# Altium footprint library Connector_PinHeader_2.00mm.PcbLib: 278 footprints (part 7 of 18)
Each footprint in its own frame and in the unit in brackets; x right, y up, seen from the top. Pads: shape width x height; smd on the part's side, far side on the other; paste and mask are expansions set on the pad; w line width, h text height; cw(c..) or ccw(c..) is an arc to the next point about the centre after c.
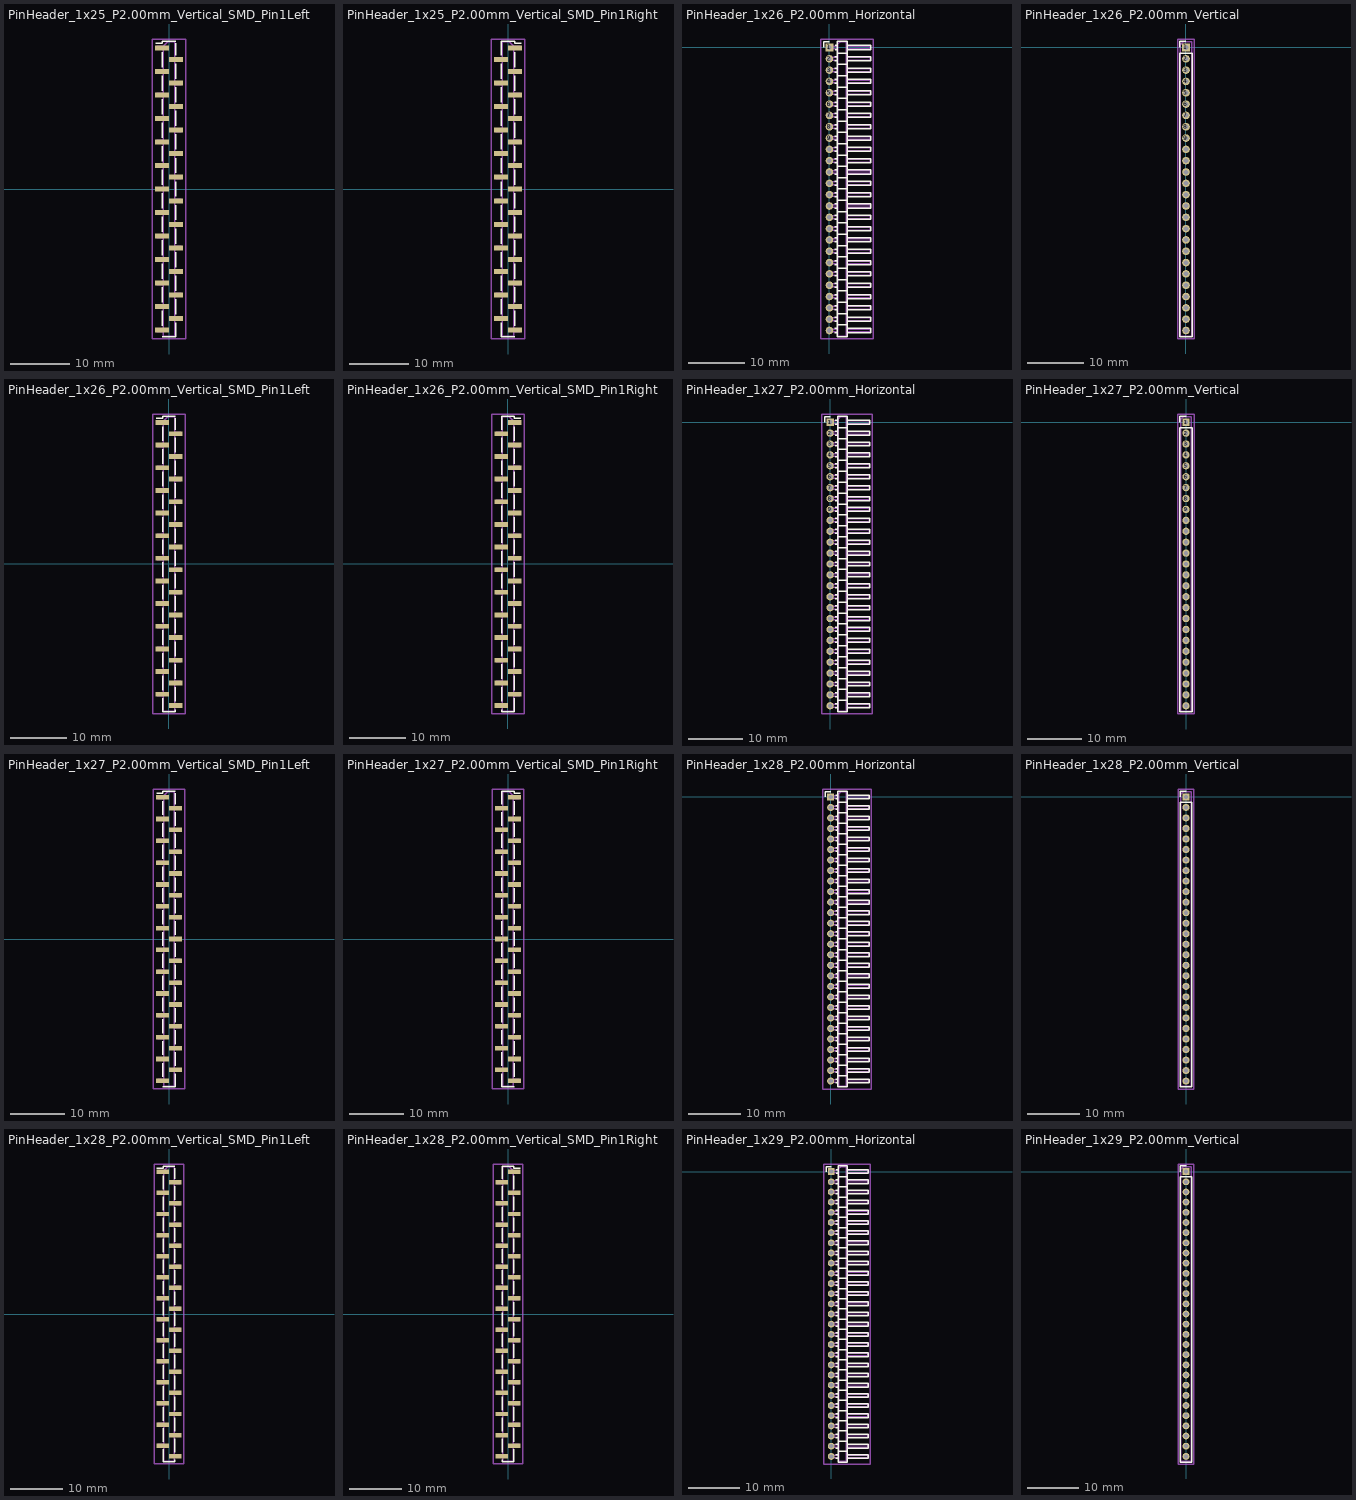
[diagram p6: the footprints below, top view; thin cyan lines are the x and y axes]

## PinHeader_1x25_P2.00mm_Vertical_SMD_Pin1Left [mm]
pads (25):
  rect 2.35x0.85 smd: 1(-1.175,24) 2(1.175,22) 3(-1.175,20) 4(1.175,18) 5(-1.175,16) 6(1.175,14) 7(-1.175,12) 8(1.175,10) 9(-1.175,8) 10(1.175,6) 11(-1.175,4) 12(1.175,2) 13(-1.175,0) 14(1.175,-2) 15(-1.175,-4) 16(1.175,-6) 17(-1.175,-8) 18(1.175,-10) 19(-1.175,-12) 20(1.175,-14) 21(-1.175,-16) 22(1.175,-18) 23(-1.175,-20) 24(1.175,-22) 25(-1.175,-24)
F.SilkS:
  lines w0.254: -2.29,24.735 -1.11,24.735 -1.11,25.11 1.11,25.11 ; -1.11,-25.11 1.11,-25.11 ; -1.11,-23.265 -1.11,-20.735 ; -1.11,-19.265 -1.11,-16.735 ; -1.11,-15.265 -1.11,-12.735 ; -1.11,-11.265 -1.11,-8.735 ; -1.11,-7.265 -1.11,-4.735 ; -1.11,-3.265 -1.11,-0.735 ; -1.11,0.735 -1.11,3.265 ; -1.11,4.735 -1.11,7.265 ; -1.11,8.735 -1.11,11.265 ; -1.11,12.735 -1.11,15.265 ; -1.11,16.735 -1.11,19.265 ; -1.11,20.735 -1.11,23.265 ; 1.11,-24.735 1.11,-25.11 ; 1.11,-22.735 1.11,-25.11 ; 1.11,-21.265 1.11,-18.735 ; 1.11,-17.265 1.11,-14.735 ; 1.11,-13.265 1.11,-10.735 ; 1.11,-9.265 1.11,-6.735 ; 1.11,-5.265 1.11,-2.735 ; 1.11,-1.265 1.11,1.265 ; 1.11,2.735 1.11,5.265 ; 1.11,6.735 1.11,9.265 ; 1.11,10.735 1.11,13.265 ; 1.11,14.735 1.11,17.265 ; 1.11,18.735 1.11,21.265 ; 1.11,22.735 1.11,24.735
Top Assembly:
  lines w0.254: -1,-24.25 -2.1,-24.25 -2.1,-23.75 -1,-23.75 ; -1,-20.25 -2.1,-20.25 -2.1,-19.75 -1,-19.75 ; -1,-16.25 -2.1,-16.25 -2.1,-15.75 -1,-15.75 ; -1,-12.25 -2.1,-12.25 -2.1,-11.75 -1,-11.75 ; -1,-8.25 -2.1,-8.25 -2.1,-7.75 -1,-7.75 ; -1,-4.25 -2.1,-4.25 -2.1,-3.75 -1,-3.75 ; -1,-0.25 -2.1,-0.25 -2.1,0.25 -1,0.25 ; -1,3.75 -2.1,3.75 -2.1,4.25 -1,4.25 ; -1,7.75 -2.1,7.75 -2.1,8.25 -1,8.25 ; -1,11.75 -2.1,11.75 -2.1,12.25 -1,12.25 ; -1,15.75 -2.1,15.75 -2.1,16.25 -1,16.25 ; -1,19.75 -2.1,19.75 -2.1,20.25 -1,20.25 ; -1,23.75 -2.1,23.75 -2.1,24.25 -1,24.25 ; 1,-22.25 2.1,-22.25 2.1,-21.75 1,-21.75 ; 1,-18.25 2.1,-18.25 2.1,-17.75 1,-17.75 ; 1,-14.25 2.1,-14.25 2.1,-13.75 1,-13.75 ; 1,-10.25 2.1,-10.25 2.1,-9.75 1,-9.75 ; 1,-6.25 2.1,-6.25 2.1,-5.75 1,-5.75 ; 1,-2.25 2.1,-2.25 2.1,-1.75 1,-1.75 ; 1,1.75 2.1,1.75 2.1,2.25 1,2.25 ; 1,5.75 2.1,5.75 2.1,6.25 1,6.25 ; 1,9.75 2.1,9.75 2.1,10.25 1,10.25 ; 1,13.75 2.1,13.75 2.1,14.25 1,14.25 ; 1,17.75 2.1,17.75 2.1,18.25 1,18.25 ; 1,21.75 2.1,21.75 2.1,22.25 1,22.25 ; -1,24.25 -1,-25 1,-25 1,25 -0.25,25 -1,24.25
  text "'.Designator'" at 0.84,-4.047 h1
Top Courtyard:
  lines w0.254: -2.85,-25.5 2.85,-25.5 2.85,25.5 -2.85,25.5 -2.85,-25.5
Top Designator:
  text ".Designator" at -7.618,-0.508 h1.52

## PinHeader_1x25_P2.00mm_Vertical_SMD_Pin1Right [mm]
pads (25):
  rect 2.35x0.85 smd: 1(1.175,24) 2(-1.175,22) 3(1.175,20) 4(-1.175,18) 5(1.175,16) 6(-1.175,14) 7(1.175,12) 8(-1.175,10) 9(1.175,8) 10(-1.175,6) 11(1.175,4) 12(-1.175,2) 13(1.175,0) 14(-1.175,-2) 15(1.175,-4) 16(-1.175,-6) 17(1.175,-8) 18(-1.175,-10) 19(1.175,-12) 20(-1.175,-14) 21(1.175,-16) 22(-1.175,-18) 23(1.175,-20) 24(-1.175,-22) 25(1.175,-24)
F.SilkS:
  lines w0.254: -1.11,-24.735 -1.11,-25.11 ; -1.11,-22.735 -1.11,-25.11 ; -1.11,-21.265 -1.11,-18.735 ; -1.11,-17.265 -1.11,-14.735 ; -1.11,-13.265 -1.11,-10.735 ; -1.11,-9.265 -1.11,-6.735 ; -1.11,-5.265 -1.11,-2.735 ; -1.11,-1.265 -1.11,1.265 ; -1.11,2.735 -1.11,5.265 ; -1.11,6.735 -1.11,9.265 ; -1.11,10.735 -1.11,13.265 ; -1.11,14.735 -1.11,17.265 ; -1.11,18.735 -1.11,21.265 ; -1.11,24.735 -1.11,22.735 -1.11,25.11 1.11,25.11 1.11,24.735 2.29,24.735 ; 1.11,-25.11 -1.11,-25.11 ; 1.11,-23.265 1.11,-20.735 ; 1.11,-19.265 1.11,-16.735 ; 1.11,-15.265 1.11,-12.735 ; 1.11,-11.265 1.11,-8.735 ; 1.11,-7.265 1.11,-4.735 ; 1.11,-3.265 1.11,-0.735 ; 1.11,0.735 1.11,3.265 ; 1.11,4.735 1.11,7.265 ; 1.11,8.735 1.11,11.265 ; 1.11,12.735 1.11,15.265 ; 1.11,16.735 1.11,19.265 ; 1.11,20.735 1.11,23.265
Top Assembly:
  lines w0.254: -1,-22.25 -2.1,-22.25 -2.1,-21.75 -1,-21.75 ; -1,-18.25 -2.1,-18.25 -2.1,-17.75 -1,-17.75 ; -1,-14.25 -2.1,-14.25 -2.1,-13.75 -1,-13.75 ; -1,-10.25 -2.1,-10.25 -2.1,-9.75 -1,-9.75 ; -1,-6.25 -2.1,-6.25 -2.1,-5.75 -1,-5.75 ; -1,-2.25 -2.1,-2.25 -2.1,-1.75 -1,-1.75 ; -1,1.75 -2.1,1.75 -2.1,2.25 -1,2.25 ; -1,5.75 -2.1,5.75 -2.1,6.25 -1,6.25 ; -1,9.75 -2.1,9.75 -2.1,10.25 -1,10.25 ; -1,13.75 -2.1,13.75 -2.1,14.25 -1,14.25 ; -1,17.75 -2.1,17.75 -2.1,18.25 -1,18.25 ; -1,21.75 -2.1,21.75 -2.1,22.25 -1,22.25 ; 1,-24.25 2.1,-24.25 2.1,-23.75 1,-23.75 ; 1,-20.25 2.1,-20.25 2.1,-19.75 1,-19.75 ; 1,-16.25 2.1,-16.25 2.1,-15.75 1,-15.75 ; 1,-12.25 2.1,-12.25 2.1,-11.75 1,-11.75 ; 1,-8.25 2.1,-8.25 2.1,-7.75 1,-7.75 ; 1,-4.25 2.1,-4.25 2.1,-3.75 1,-3.75 ; 1,-0.25 2.1,-0.25 2.1,0.25 1,0.25 ; 1,3.75 2.1,3.75 2.1,4.25 1,4.25 ; 1,7.75 2.1,7.75 2.1,8.25 1,8.25 ; 1,11.75 2.1,11.75 2.1,12.25 1,12.25 ; 1,15.75 2.1,15.75 2.1,16.25 1,16.25 ; 1,19.75 2.1,19.75 2.1,20.25 1,20.25 ; 1,23.75 2.1,23.75 2.1,24.25 1,24.25 ; 1,24.25 1,-25 -1,-25 -1,25 0.25,25 1,24.25
  text "'.Designator'" at 0.84,-4.047 h1
Top Courtyard:
  lines w0.254: -2.85,-25.5 2.85,-25.5 2.85,25.5 -2.85,25.5 -2.85,-25.5
Top Designator:
  text ".Designator" at -7.618,-0.508 h1.52

## PinHeader_1x26_P2.00mm_Horizontal [mm]
pads (26):
  rect 1.35x1.35 hole 0.8: 1(0,0)
  round 1.35 hole 0.8: 2(0,-2) 3(0,-4) 4(0,-6) 5(0,-8) 6(0,-10) 7(0,-12) 8(0,-14) 9(0,-16) 10(0,-18) 11(0,-20) 12(0,-22) 13(0,-24) 14(0,-26) 15(0,-28) 16(0,-30) 17(0,-32) 18(0,-34) 19(0,-36) 20(0,-38) 21(0,-40) 22(0,-42) 23(0,-44) 24(0,-46) 25(0,-48) 26(0,-50)
F.SilkS:
  drawing of 162 lines, arcs and shapes, not listed
Top Assembly:
  drawing of 161 lines, arcs and shapes, not listed
  text "'.Designator'" at 3.006,-28.642 h0.9
Top Courtyard:
  lines w0.254: -1.5,-51.5 7.7,-51.5 7.7,1.5 -1.5,1.5 -1.5,-51.5
Top Designator:
  text ".Designator" at -4.518,-25.508 h1.52

## PinHeader_1x26_P2.00mm_Vertical [mm]
pads (26):
  rect 1.35x1.35 hole 0.8: 1(0,0)
  round 1.35 hole 0.8: 2(0,-2) 3(0,-4) 4(0,-6) 5(0,-8) 6(0,-10) 7(0,-12) 8(0,-14) 9(0,-16) 10(0,-18) 11(0,-20) 12(0,-22) 13(0,-24) 14(0,-26) 15(0,-28) 16(0,-30) 17(0,-32) 18(0,-34) 19(0,-36) 20(0,-38) 21(0,-40) 22(0,-42) 23(0,-44) 24(0,-46) 25(0,-48) 26(0,-50)
F.SilkS:
  lines w0.254: -1.11,0 -1.11,1.11 0,1.11 ; -1.11,-51.11 1.11,-51.11 1.11,-1 -1.11,-1 -1.11,-51.11
Top Assembly:
  lines w0.254: -1,-51 1,-51 1,1 -0.5,1 -1,0.5 -1,-51
  text "'.Designator'" at 0.84,-29.047 h1
Top Courtyard:
  lines w0.254: -1.5,-51.5 1.5,-51.5 1.5,1.5 -1.5,1.5 -1.5,-51.5
Top Designator:
  text ".Designator" at -7.618,-25.508 h1.52

## PinHeader_1x26_P2.00mm_Vertical_SMD_Pin1Left [mm]
pads (26):
  rect 2.35x0.85 smd: 1(-1.175,25) 2(1.175,23) 3(-1.175,21) 4(1.175,19) 5(-1.175,17) 6(1.175,15) 7(-1.175,13) 8(1.175,11) 9(-1.175,9) 10(1.175,7) 11(-1.175,5) 12(1.175,3) 13(-1.175,1) 14(1.175,-1) 15(-1.175,-3) 16(1.175,-5) 17(-1.175,-7) 18(1.175,-9) 19(-1.175,-11) 20(1.175,-13) 21(-1.175,-15) 22(1.175,-17) 23(-1.175,-19) 24(1.175,-21) 25(-1.175,-23) 26(1.175,-25)
F.SilkS:
  lines w0.254: -2.29,25.735 -1.11,25.735 -1.11,26.11 1.11,26.11 ; -1.11,-23.735 -1.11,-26.11 1.11,-26.11 1.11,-25.735 ; -1.11,-22.265 -1.11,-19.735 ; -1.11,-18.265 -1.11,-15.735 ; -1.11,-14.265 -1.11,-11.735 ; -1.11,-10.265 -1.11,-7.735 ; -1.11,-6.265 -1.11,-3.735 ; -1.11,-2.265 -1.11,0.265 ; -1.11,1.735 -1.11,4.265 ; -1.11,5.735 -1.11,8.265 ; -1.11,9.735 -1.11,12.265 ; -1.11,13.735 -1.11,16.265 ; -1.11,17.735 -1.11,20.265 ; -1.11,21.735 -1.11,24.265 ; 1.11,-24.265 1.11,-21.735 ; 1.11,-20.265 1.11,-17.735 ; 1.11,-16.265 1.11,-13.735 ; 1.11,-12.265 1.11,-9.735 ; 1.11,-8.265 1.11,-5.735 ; 1.11,-4.265 1.11,-1.735 ; 1.11,-0.265 1.11,2.265 ; 1.11,3.735 1.11,6.265 ; 1.11,7.735 1.11,10.265 ; 1.11,11.735 1.11,14.265 ; 1.11,15.735 1.11,18.265 ; 1.11,19.735 1.11,22.265 ; 1.11,23.735 1.11,25.735
Top Assembly:
  lines w0.254: -1,-23.25 -2.1,-23.25 -2.1,-22.75 -1,-22.75 ; -1,-19.25 -2.1,-19.25 -2.1,-18.75 -1,-18.75 ; -1,-15.25 -2.1,-15.25 -2.1,-14.75 -1,-14.75 ; -1,-11.25 -2.1,-11.25 -2.1,-10.75 -1,-10.75 ; -1,-7.25 -2.1,-7.25 -2.1,-6.75 -1,-6.75 ; -1,-3.25 -2.1,-3.25 -2.1,-2.75 -1,-2.75 ; -1,0.75 -2.1,0.75 -2.1,1.25 -1,1.25 ; -1,4.75 -2.1,4.75 -2.1,5.25 -1,5.25 ; -1,8.75 -2.1,8.75 -2.1,9.25 -1,9.25 ; -1,12.75 -2.1,12.75 -2.1,13.25 -1,13.25 ; -1,16.75 -2.1,16.75 -2.1,17.25 -1,17.25 ; -1,20.75 -2.1,20.75 -2.1,21.25 -1,21.25 ; -1,24.75 -2.1,24.75 -2.1,25.25 -1,25.25 ; 1,-25.25 2.1,-25.25 2.1,-24.75 1,-24.75 ; 1,-21.25 2.1,-21.25 2.1,-20.75 1,-20.75 ; 1,-17.25 2.1,-17.25 2.1,-16.75 1,-16.75 ; 1,-13.25 2.1,-13.25 2.1,-12.75 1,-12.75 ; 1,-9.25 2.1,-9.25 2.1,-8.75 1,-8.75 ; 1,-5.25 2.1,-5.25 2.1,-4.75 1,-4.75 ; 1,-1.25 2.1,-1.25 2.1,-0.75 1,-0.75 ; 1,2.75 2.1,2.75 2.1,3.25 1,3.25 ; 1,6.75 2.1,6.75 2.1,7.25 1,7.25 ; 1,10.75 2.1,10.75 2.1,11.25 1,11.25 ; 1,14.75 2.1,14.75 2.1,15.25 1,15.25 ; 1,18.75 2.1,18.75 2.1,19.25 1,19.25 ; 1,22.75 2.1,22.75 2.1,23.25 1,23.25 ; -1,25.25 -1,-26 1,-26 1,26 -0.25,26 -1,25.25
  text "'.Designator'" at 0.84,-4.047 h1
Top Courtyard:
  lines w0.254: -2.85,-26.5 2.85,-26.5 2.85,26.5 -2.85,26.5 -2.85,-26.5
Top Designator:
  text ".Designator" at -7.618,-0.508 h1.52

## PinHeader_1x26_P2.00mm_Vertical_SMD_Pin1Right [mm]
pads (26):
  rect 2.35x0.85 smd: 1(1.175,25) 2(-1.175,23) 3(1.175,21) 4(-1.175,19) 5(1.175,17) 6(-1.175,15) 7(1.175,13) 8(-1.175,11) 9(1.175,9) 10(-1.175,7) 11(1.175,5) 12(-1.175,3) 13(1.175,1) 14(-1.175,-1) 15(1.175,-3) 16(-1.175,-5) 17(1.175,-7) 18(-1.175,-9) 19(1.175,-11) 20(-1.175,-13) 21(1.175,-15) 22(-1.175,-17) 23(1.175,-19) 24(-1.175,-21) 25(1.175,-23) 26(-1.175,-25)
F.SilkS:
  lines w0.254: -1.11,-25.735 -1.11,-26.11 1.11,-26.11 1.11,-23.735 ; -1.11,-24.265 -1.11,-21.735 ; -1.11,-20.265 -1.11,-17.735 ; -1.11,-16.265 -1.11,-13.735 ; -1.11,-12.265 -1.11,-9.735 ; -1.11,-8.265 -1.11,-5.735 ; -1.11,-4.265 -1.11,-1.735 ; -1.11,-0.265 -1.11,2.265 ; -1.11,3.735 -1.11,6.265 ; -1.11,7.735 -1.11,10.265 ; -1.11,11.735 -1.11,14.265 ; -1.11,15.735 -1.11,18.265 ; -1.11,19.735 -1.11,22.265 ; -1.11,25.735 -1.11,23.735 -1.11,26.11 1.11,26.11 1.11,25.735 2.29,25.735 ; 1.11,-22.265 1.11,-19.735 ; 1.11,-18.265 1.11,-15.735 ; 1.11,-14.265 1.11,-11.735 ; 1.11,-10.265 1.11,-7.735 ; 1.11,-6.265 1.11,-3.735 ; 1.11,-2.265 1.11,0.265 ; 1.11,1.735 1.11,4.265 ; 1.11,5.735 1.11,8.265 ; 1.11,9.735 1.11,12.265 ; 1.11,13.735 1.11,16.265 ; 1.11,17.735 1.11,20.265 ; 1.11,21.735 1.11,24.265
Top Assembly:
  lines w0.254: -1,-25.25 -2.1,-25.25 -2.1,-24.75 -1,-24.75 ; -1,-21.25 -2.1,-21.25 -2.1,-20.75 -1,-20.75 ; -1,-17.25 -2.1,-17.25 -2.1,-16.75 -1,-16.75 ; -1,-13.25 -2.1,-13.25 -2.1,-12.75 -1,-12.75 ; -1,-9.25 -2.1,-9.25 -2.1,-8.75 -1,-8.75 ; -1,-5.25 -2.1,-5.25 -2.1,-4.75 -1,-4.75 ; -1,-1.25 -2.1,-1.25 -2.1,-0.75 -1,-0.75 ; -1,2.75 -2.1,2.75 -2.1,3.25 -1,3.25 ; -1,6.75 -2.1,6.75 -2.1,7.25 -1,7.25 ; -1,10.75 -2.1,10.75 -2.1,11.25 -1,11.25 ; -1,14.75 -2.1,14.75 -2.1,15.25 -1,15.25 ; -1,18.75 -2.1,18.75 -2.1,19.25 -1,19.25 ; -1,22.75 -2.1,22.75 -2.1,23.25 -1,23.25 ; 1,-23.25 2.1,-23.25 2.1,-22.75 1,-22.75 ; 1,-19.25 2.1,-19.25 2.1,-18.75 1,-18.75 ; 1,-15.25 2.1,-15.25 2.1,-14.75 1,-14.75 ; 1,-11.25 2.1,-11.25 2.1,-10.75 1,-10.75 ; 1,-7.25 2.1,-7.25 2.1,-6.75 1,-6.75 ; 1,-3.25 2.1,-3.25 2.1,-2.75 1,-2.75 ; 1,0.75 2.1,0.75 2.1,1.25 1,1.25 ; 1,4.75 2.1,4.75 2.1,5.25 1,5.25 ; 1,8.75 2.1,8.75 2.1,9.25 1,9.25 ; 1,12.75 2.1,12.75 2.1,13.25 1,13.25 ; 1,16.75 2.1,16.75 2.1,17.25 1,17.25 ; 1,20.75 2.1,20.75 2.1,21.25 1,21.25 ; 1,24.75 2.1,24.75 2.1,25.25 1,25.25 ; 1,25.25 1,-26 -1,-26 -1,26 0.25,26 1,25.25
  text "'.Designator'" at 0.84,-4.047 h1
Top Courtyard:
  lines w0.254: -2.85,-26.5 2.85,-26.5 2.85,26.5 -2.85,26.5 -2.85,-26.5
Top Designator:
  text ".Designator" at -7.618,-0.508 h1.52

## PinHeader_1x27_P2.00mm_Horizontal [mm]
pads (27):
  rect 1.35x1.35 hole 0.8: 1(0,0)
  round 1.35 hole 0.8: 2(0,-2) 3(0,-4) 4(0,-6) 5(0,-8) 6(0,-10) 7(0,-12) 8(0,-14) 9(0,-16) 10(0,-18) 11(0,-20) 12(0,-22) 13(0,-24) 14(0,-26) 15(0,-28) 16(0,-30) 17(0,-32) 18(0,-34) 19(0,-36) 20(0,-38) 21(0,-40) 22(0,-42) 23(0,-44) 24(0,-46) 25(0,-48) 26(0,-50) 27(0,-52)
F.SilkS:
  drawing of 168 lines, arcs and shapes, not listed
Top Assembly:
  drawing of 167 lines, arcs and shapes, not listed
  text "'.Designator'" at 3.006,-29.642 h0.9
Top Courtyard:
  lines w0.254: -1.5,-53.5 7.7,-53.5 7.7,1.5 -1.5,1.5 -1.5,-53.5
Top Designator:
  text ".Designator" at -4.518,-26.508 h1.52

## PinHeader_1x27_P2.00mm_Vertical [mm]
pads (27):
  rect 1.35x1.35 hole 0.8: 1(0,0)
  round 1.35 hole 0.8: 2(0,-2) 3(0,-4) 4(0,-6) 5(0,-8) 6(0,-10) 7(0,-12) 8(0,-14) 9(0,-16) 10(0,-18) 11(0,-20) 12(0,-22) 13(0,-24) 14(0,-26) 15(0,-28) 16(0,-30) 17(0,-32) 18(0,-34) 19(0,-36) 20(0,-38) 21(0,-40) 22(0,-42) 23(0,-44) 24(0,-46) 25(0,-48) 26(0,-50) 27(0,-52)
F.SilkS:
  lines w0.254: -1.11,0 -1.11,1.11 0,1.11 ; -1.11,-53.11 1.11,-53.11 1.11,-1 -1.11,-1 -1.11,-53.11
Top Assembly:
  lines w0.254: -1,-53 1,-53 1,1 -0.5,1 -1,0.5 -1,-53
  text "'.Designator'" at 0.84,-30.047 h1
Top Courtyard:
  lines w0.254: -1.5,-53.5 1.5,-53.5 1.5,1.5 -1.5,1.5 -1.5,-53.5
Top Designator:
  text ".Designator" at -7.618,-26.508 h1.52

## PinHeader_1x27_P2.00mm_Vertical_SMD_Pin1Left [mm]
pads (27):
  rect 2.35x0.85 smd: 1(-1.175,26) 2(1.175,24) 3(-1.175,22) 4(1.175,20) 5(-1.175,18) 6(1.175,16) 7(-1.175,14) 8(1.175,12) 9(-1.175,10) 10(1.175,8) 11(-1.175,6) 12(1.175,4) 13(-1.175,2) 14(1.175,0) 15(-1.175,-2) 16(1.175,-4) 17(-1.175,-6) 18(1.175,-8) 19(-1.175,-10) 20(1.175,-12) 21(-1.175,-14) 22(1.175,-16) 23(-1.175,-18) 24(1.175,-20) 25(-1.175,-22) 26(1.175,-24) 27(-1.175,-26)
F.SilkS:
  lines w0.254: -2.29,26.735 -1.11,26.735 -1.11,27.11 1.11,27.11 ; -1.11,-27.11 1.11,-27.11 ; -1.11,-25.265 -1.11,-22.735 ; -1.11,-21.265 -1.11,-18.735 ; -1.11,-17.265 -1.11,-14.735 ; -1.11,-13.265 -1.11,-10.735 ; -1.11,-9.265 -1.11,-6.735 ; -1.11,-5.265 -1.11,-2.735 ; -1.11,-1.265 -1.11,1.265 ; -1.11,2.735 -1.11,5.265 ; -1.11,6.735 -1.11,9.265 ; -1.11,10.735 -1.11,13.265 ; -1.11,14.735 -1.11,17.265 ; -1.11,18.735 -1.11,21.265 ; -1.11,22.735 -1.11,25.265 ; 1.11,-26.735 1.11,-27.11 ; 1.11,-24.735 1.11,-27.11 ; 1.11,-23.265 1.11,-20.735 ; 1.11,-19.265 1.11,-16.735 ; 1.11,-15.265 1.11,-12.735 ; 1.11,-11.265 1.11,-8.735 ; 1.11,-7.265 1.11,-4.735 ; 1.11,-3.265 1.11,-0.735 ; 1.11,0.735 1.11,3.265 ; 1.11,4.735 1.11,7.265 ; 1.11,8.735 1.11,11.265 ; 1.11,12.735 1.11,15.265 ; 1.11,16.735 1.11,19.265 ; 1.11,20.735 1.11,23.265 ; 1.11,24.735 1.11,26.735
Top Assembly:
  lines w0.254: -1,-26.25 -2.1,-26.25 -2.1,-25.75 -1,-25.75 ; -1,-22.25 -2.1,-22.25 -2.1,-21.75 -1,-21.75 ; -1,-18.25 -2.1,-18.25 -2.1,-17.75 -1,-17.75 ; -1,-14.25 -2.1,-14.25 -2.1,-13.75 -1,-13.75 ; -1,-10.25 -2.1,-10.25 -2.1,-9.75 -1,-9.75 ; -1,-6.25 -2.1,-6.25 -2.1,-5.75 -1,-5.75 ; -1,-2.25 -2.1,-2.25 -2.1,-1.75 -1,-1.75 ; -1,1.75 -2.1,1.75 -2.1,2.25 -1,2.25 ; -1,5.75 -2.1,5.75 -2.1,6.25 -1,6.25 ; -1,9.75 -2.1,9.75 -2.1,10.25 -1,10.25 ; -1,13.75 -2.1,13.75 -2.1,14.25 -1,14.25 ; -1,17.75 -2.1,17.75 -2.1,18.25 -1,18.25 ; -1,21.75 -2.1,21.75 -2.1,22.25 -1,22.25 ; -1,25.75 -2.1,25.75 -2.1,26.25 -1,26.25 ; 1,-24.25 2.1,-24.25 2.1,-23.75 1,-23.75 ; 1,-20.25 2.1,-20.25 2.1,-19.75 1,-19.75 ; 1,-16.25 2.1,-16.25 2.1,-15.75 1,-15.75 ; 1,-12.25 2.1,-12.25 2.1,-11.75 1,-11.75 ; 1,-8.25 2.1,-8.25 2.1,-7.75 1,-7.75 ; 1,-4.25 2.1,-4.25 2.1,-3.75 1,-3.75 ; 1,-0.25 2.1,-0.25 2.1,0.25 1,0.25 ; 1,3.75 2.1,3.75 2.1,4.25 1,4.25 ; 1,7.75 2.1,7.75 2.1,8.25 1,8.25 ; 1,11.75 2.1,11.75 2.1,12.25 1,12.25 ; 1,15.75 2.1,15.75 2.1,16.25 1,16.25 ; 1,19.75 2.1,19.75 2.1,20.25 1,20.25 ; 1,23.75 2.1,23.75 2.1,24.25 1,24.25 ; -1,26.25 -1,-27 1,-27 1,27 -0.25,27 -1,26.25
  text "'.Designator'" at 0.84,-4.047 h1
Top Courtyard:
  lines w0.254: -2.85,-27.5 2.85,-27.5 2.85,27.5 -2.85,27.5 -2.85,-27.5
Top Designator:
  text ".Designator" at -7.618,-0.508 h1.52

## PinHeader_1x27_P2.00mm_Vertical_SMD_Pin1Right [mm]
pads (27):
  rect 2.35x0.85 smd: 1(1.175,26) 2(-1.175,24) 3(1.175,22) 4(-1.175,20) 5(1.175,18) 6(-1.175,16) 7(1.175,14) 8(-1.175,12) 9(1.175,10) 10(-1.175,8) 11(1.175,6) 12(-1.175,4) 13(1.175,2) 14(-1.175,0) 15(1.175,-2) 16(-1.175,-4) 17(1.175,-6) 18(-1.175,-8) 19(1.175,-10) 20(-1.175,-12) 21(1.175,-14) 22(-1.175,-16) 23(1.175,-18) 24(-1.175,-20) 25(1.175,-22) 26(-1.175,-24) 27(1.175,-26)
F.SilkS:
  lines w0.254: -1.11,-26.735 -1.11,-27.11 ; -1.11,-24.735 -1.11,-27.11 ; -1.11,-23.265 -1.11,-20.735 ; -1.11,-19.265 -1.11,-16.735 ; -1.11,-15.265 -1.11,-12.735 ; -1.11,-11.265 -1.11,-8.735 ; -1.11,-7.265 -1.11,-4.735 ; -1.11,-3.265 -1.11,-0.735 ; -1.11,0.735 -1.11,3.265 ; -1.11,4.735 -1.11,7.265 ; -1.11,8.735 -1.11,11.265 ; -1.11,12.735 -1.11,15.265 ; -1.11,16.735 -1.11,19.265 ; -1.11,20.735 -1.11,23.265 ; -1.11,26.735 -1.11,24.735 -1.11,27.11 1.11,27.11 1.11,26.735 2.29,26.735 ; 1.11,-27.11 -1.11,-27.11 ; 1.11,-25.265 1.11,-22.735 ; 1.11,-21.265 1.11,-18.735 ; 1.11,-17.265 1.11,-14.735 ; 1.11,-13.265 1.11,-10.735 ; 1.11,-9.265 1.11,-6.735 ; 1.11,-5.265 1.11,-2.735 ; 1.11,-1.265 1.11,1.265 ; 1.11,2.735 1.11,5.265 ; 1.11,6.735 1.11,9.265 ; 1.11,10.735 1.11,13.265 ; 1.11,14.735 1.11,17.265 ; 1.11,18.735 1.11,21.265 ; 1.11,22.735 1.11,25.265
Top Assembly:
  lines w0.254: -1,-24.25 -2.1,-24.25 -2.1,-23.75 -1,-23.75 ; -1,-20.25 -2.1,-20.25 -2.1,-19.75 -1,-19.75 ; -1,-16.25 -2.1,-16.25 -2.1,-15.75 -1,-15.75 ; -1,-12.25 -2.1,-12.25 -2.1,-11.75 -1,-11.75 ; -1,-8.25 -2.1,-8.25 -2.1,-7.75 -1,-7.75 ; -1,-4.25 -2.1,-4.25 -2.1,-3.75 -1,-3.75 ; -1,-0.25 -2.1,-0.25 -2.1,0.25 -1,0.25 ; -1,3.75 -2.1,3.75 -2.1,4.25 -1,4.25 ; -1,7.75 -2.1,7.75 -2.1,8.25 -1,8.25 ; -1,11.75 -2.1,11.75 -2.1,12.25 -1,12.25 ; -1,15.75 -2.1,15.75 -2.1,16.25 -1,16.25 ; -1,19.75 -2.1,19.75 -2.1,20.25 -1,20.25 ; -1,23.75 -2.1,23.75 -2.1,24.25 -1,24.25 ; 1,-26.25 2.1,-26.25 2.1,-25.75 1,-25.75 ; 1,-22.25 2.1,-22.25 2.1,-21.75 1,-21.75 ; 1,-18.25 2.1,-18.25 2.1,-17.75 1,-17.75 ; 1,-14.25 2.1,-14.25 2.1,-13.75 1,-13.75 ; 1,-10.25 2.1,-10.25 2.1,-9.75 1,-9.75 ; 1,-6.25 2.1,-6.25 2.1,-5.75 1,-5.75 ; 1,-2.25 2.1,-2.25 2.1,-1.75 1,-1.75 ; 1,1.75 2.1,1.75 2.1,2.25 1,2.25 ; 1,5.75 2.1,5.75 2.1,6.25 1,6.25 ; 1,9.75 2.1,9.75 2.1,10.25 1,10.25 ; 1,13.75 2.1,13.75 2.1,14.25 1,14.25 ; 1,17.75 2.1,17.75 2.1,18.25 1,18.25 ; 1,21.75 2.1,21.75 2.1,22.25 1,22.25 ; 1,25.75 2.1,25.75 2.1,26.25 1,26.25 ; 1,26.25 1,-27 -1,-27 -1,27 0.25,27 1,26.25
  text "'.Designator'" at 0.84,-4.047 h1
Top Courtyard:
  lines w0.254: -2.85,-27.5 2.85,-27.5 2.85,27.5 -2.85,27.5 -2.85,-27.5
Top Designator:
  text ".Designator" at -7.618,-0.508 h1.52

## PinHeader_1x28_P2.00mm_Horizontal [mm]
pads (28):
  rect 1.35x1.35 hole 0.8: 1(0,0)
  round 1.35 hole 0.8: 2(0,-2) 3(0,-4) 4(0,-6) 5(0,-8) 6(0,-10) 7(0,-12) 8(0,-14) 9(0,-16) 10(0,-18) 11(0,-20) 12(0,-22) 13(0,-24) 14(0,-26) 15(0,-28) 16(0,-30) 17(0,-32) 18(0,-34) 19(0,-36) 20(0,-38) 21(0,-40) 22(0,-42) 23(0,-44) 24(0,-46) 25(0,-48) 26(0,-50) 27(0,-52) 28(0,-54)
F.SilkS:
  drawing of 174 lines, arcs and shapes, not listed
Top Assembly:
  drawing of 173 lines, arcs and shapes, not listed
  text "'.Designator'" at 3.006,-30.642 h0.9
Top Courtyard:
  lines w0.254: -1.5,-55.5 7.7,-55.5 7.7,1.5 -1.5,1.5 -1.5,-55.5
Top Designator:
  text ".Designator" at -4.518,-27.508 h1.52

## PinHeader_1x28_P2.00mm_Vertical [mm]
pads (28):
  rect 1.35x1.35 hole 0.8: 1(0,0)
  round 1.35 hole 0.8: 2(0,-2) 3(0,-4) 4(0,-6) 5(0,-8) 6(0,-10) 7(0,-12) 8(0,-14) 9(0,-16) 10(0,-18) 11(0,-20) 12(0,-22) 13(0,-24) 14(0,-26) 15(0,-28) 16(0,-30) 17(0,-32) 18(0,-34) 19(0,-36) 20(0,-38) 21(0,-40) 22(0,-42) 23(0,-44) 24(0,-46) 25(0,-48) 26(0,-50) 27(0,-52) 28(0,-54)
F.SilkS:
  lines w0.254: -1.11,0 -1.11,1.11 0,1.11 ; -1.11,-55.11 1.11,-55.11 1.11,-1 -1.11,-1 -1.11,-55.11
Top Assembly:
  lines w0.254: -1,-55 1,-55 1,1 -0.5,1 -1,0.5 -1,-55
  text "'.Designator'" at 0.84,-31.047 h1
Top Courtyard:
  lines w0.254: -1.5,-55.5 1.5,-55.5 1.5,1.5 -1.5,1.5 -1.5,-55.5
Top Designator:
  text ".Designator" at -7.618,-27.508 h1.52

## PinHeader_1x28_P2.00mm_Vertical_SMD_Pin1Left [mm]
pads (28):
  rect 2.35x0.85 smd: 1(-1.175,27) 2(1.175,25) 3(-1.175,23) 4(1.175,21) 5(-1.175,19) 6(1.175,17) 7(-1.175,15) 8(1.175,13) 9(-1.175,11) 10(1.175,9) 11(-1.175,7) 12(1.175,5) 13(-1.175,3) 14(1.175,1) 15(-1.175,-1) 16(1.175,-3) 17(-1.175,-5) 18(1.175,-7) 19(-1.175,-9) 20(1.175,-11) 21(-1.175,-13) 22(1.175,-15) 23(-1.175,-17) 24(1.175,-19) 25(-1.175,-21) 26(1.175,-23) 27(-1.175,-25) 28(1.175,-27)
F.SilkS:
  lines w0.254: -2.29,27.735 -1.11,27.735 -1.11,28.11 1.11,28.11 ; -1.11,-25.735 -1.11,-28.11 1.11,-28.11 1.11,-27.735 ; -1.11,-24.265 -1.11,-21.735 ; -1.11,-20.265 -1.11,-17.735 ; -1.11,-16.265 -1.11,-13.735 ; -1.11,-12.265 -1.11,-9.735 ; -1.11,-8.265 -1.11,-5.735 ; -1.11,-4.265 -1.11,-1.735 ; -1.11,-0.265 -1.11,2.265 ; -1.11,3.735 -1.11,6.265 ; -1.11,7.735 -1.11,10.265 ; -1.11,11.735 -1.11,14.265 ; -1.11,15.735 -1.11,18.265 ; -1.11,19.735 -1.11,22.265 ; -1.11,23.735 -1.11,26.265 ; 1.11,-26.265 1.11,-23.735 ; 1.11,-22.265 1.11,-19.735 ; 1.11,-18.265 1.11,-15.735 ; 1.11,-14.265 1.11,-11.735 ; 1.11,-10.265 1.11,-7.735 ; 1.11,-6.265 1.11,-3.735 ; 1.11,-2.265 1.11,0.265 ; 1.11,1.735 1.11,4.265 ; 1.11,5.735 1.11,8.265 ; 1.11,9.735 1.11,12.265 ; 1.11,13.735 1.11,16.265 ; 1.11,17.735 1.11,20.265 ; 1.11,21.735 1.11,24.265 ; 1.11,25.735 1.11,27.735
Top Assembly:
  lines w0.254: -1,-25.25 -2.1,-25.25 -2.1,-24.75 -1,-24.75 ; -1,-21.25 -2.1,-21.25 -2.1,-20.75 -1,-20.75 ; -1,-17.25 -2.1,-17.25 -2.1,-16.75 -1,-16.75 ; -1,-13.25 -2.1,-13.25 -2.1,-12.75 -1,-12.75 ; -1,-9.25 -2.1,-9.25 -2.1,-8.75 -1,-8.75 ; -1,-5.25 -2.1,-5.25 -2.1,-4.75 -1,-4.75 ; -1,-1.25 -2.1,-1.25 -2.1,-0.75 -1,-0.75 ; -1,2.75 -2.1,2.75 -2.1,3.25 -1,3.25 ; -1,6.75 -2.1,6.75 -2.1,7.25 -1,7.25 ; -1,10.75 -2.1,10.75 -2.1,11.25 -1,11.25 ; -1,14.75 -2.1,14.75 -2.1,15.25 -1,15.25 ; -1,18.75 -2.1,18.75 -2.1,19.25 -1,19.25 ; -1,22.75 -2.1,22.75 -2.1,23.25 -1,23.25 ; -1,26.75 -2.1,26.75 -2.1,27.25 -1,27.25 ; 1,-27.25 2.1,-27.25 2.1,-26.75 1,-26.75 ; 1,-23.25 2.1,-23.25 2.1,-22.75 1,-22.75 ; 1,-19.25 2.1,-19.25 2.1,-18.75 1,-18.75 ; 1,-15.25 2.1,-15.25 2.1,-14.75 1,-14.75 ; 1,-11.25 2.1,-11.25 2.1,-10.75 1,-10.75 ; 1,-7.25 2.1,-7.25 2.1,-6.75 1,-6.75 ; 1,-3.25 2.1,-3.25 2.1,-2.75 1,-2.75 ; 1,0.75 2.1,0.75 2.1,1.25 1,1.25 ; 1,4.75 2.1,4.75 2.1,5.25 1,5.25 ; 1,8.75 2.1,8.75 2.1,9.25 1,9.25 ; 1,12.75 2.1,12.75 2.1,13.25 1,13.25 ; 1,16.75 2.1,16.75 2.1,17.25 1,17.25 ; 1,20.75 2.1,20.75 2.1,21.25 1,21.25 ; 1,24.75 2.1,24.75 2.1,25.25 1,25.25 ; -1,27.25 -1,-28 1,-28 1,28 -0.25,28 -1,27.25
  text "'.Designator'" at 0.84,-4.047 h1
Top Courtyard:
  lines w0.254: -2.85,-28.5 2.85,-28.5 2.85,28.5 -2.85,28.5 -2.85,-28.5
Top Designator:
  text ".Designator" at -7.618,-0.508 h1.52

## PinHeader_1x28_P2.00mm_Vertical_SMD_Pin1Right [mm]
pads (28):
  rect 2.35x0.85 smd: 1(1.175,27) 2(-1.175,25) 3(1.175,23) 4(-1.175,21) 5(1.175,19) 6(-1.175,17) 7(1.175,15) 8(-1.175,13) 9(1.175,11) 10(-1.175,9) 11(1.175,7) 12(-1.175,5) 13(1.175,3) 14(-1.175,1) 15(1.175,-1) 16(-1.175,-3) 17(1.175,-5) 18(-1.175,-7) 19(1.175,-9) 20(-1.175,-11) 21(1.175,-13) 22(-1.175,-15) 23(1.175,-17) 24(-1.175,-19) 25(1.175,-21) 26(-1.175,-23) 27(1.175,-25) 28(-1.175,-27)
F.SilkS:
  lines w0.254: -1.11,-27.735 -1.11,-28.11 1.11,-28.11 1.11,-25.735 ; -1.11,-26.265 -1.11,-23.735 ; -1.11,-22.265 -1.11,-19.735 ; -1.11,-18.265 -1.11,-15.735 ; -1.11,-14.265 -1.11,-11.735 ; -1.11,-10.265 -1.11,-7.735 ; -1.11,-6.265 -1.11,-3.735 ; -1.11,-2.265 -1.11,0.265 ; -1.11,1.735 -1.11,4.265 ; -1.11,5.735 -1.11,8.265 ; -1.11,9.735 -1.11,12.265 ; -1.11,13.735 -1.11,16.265 ; -1.11,17.735 -1.11,20.265 ; -1.11,21.735 -1.11,24.265 ; -1.11,27.735 -1.11,25.735 -1.11,28.11 1.11,28.11 1.11,27.735 2.29,27.735 ; 1.11,-24.265 1.11,-21.735 ; 1.11,-20.265 1.11,-17.735 ; 1.11,-16.265 1.11,-13.735 ; 1.11,-12.265 1.11,-9.735 ; 1.11,-8.265 1.11,-5.735 ; 1.11,-4.265 1.11,-1.735 ; 1.11,-0.265 1.11,2.265 ; 1.11,3.735 1.11,6.265 ; 1.11,7.735 1.11,10.265 ; 1.11,11.735 1.11,14.265 ; 1.11,15.735 1.11,18.265 ; 1.11,19.735 1.11,22.265 ; 1.11,23.735 1.11,26.265
Top Assembly:
  lines w0.254: -1,-27.25 -2.1,-27.25 -2.1,-26.75 -1,-26.75 ; -1,-23.25 -2.1,-23.25 -2.1,-22.75 -1,-22.75 ; -1,-19.25 -2.1,-19.25 -2.1,-18.75 -1,-18.75 ; -1,-15.25 -2.1,-15.25 -2.1,-14.75 -1,-14.75 ; -1,-11.25 -2.1,-11.25 -2.1,-10.75 -1,-10.75 ; -1,-7.25 -2.1,-7.25 -2.1,-6.75 -1,-6.75 ; -1,-3.25 -2.1,-3.25 -2.1,-2.75 -1,-2.75 ; -1,0.75 -2.1,0.75 -2.1,1.25 -1,1.25 ; -1,4.75 -2.1,4.75 -2.1,5.25 -1,5.25 ; -1,8.75 -2.1,8.75 -2.1,9.25 -1,9.25 ; -1,12.75 -2.1,12.75 -2.1,13.25 -1,13.25 ; -1,16.75 -2.1,16.75 -2.1,17.25 -1,17.25 ; -1,20.75 -2.1,20.75 -2.1,21.25 -1,21.25 ; -1,24.75 -2.1,24.75 -2.1,25.25 -1,25.25 ; 1,-25.25 2.1,-25.25 2.1,-24.75 1,-24.75 ; 1,-21.25 2.1,-21.25 2.1,-20.75 1,-20.75 ; 1,-17.25 2.1,-17.25 2.1,-16.75 1,-16.75 ; 1,-13.25 2.1,-13.25 2.1,-12.75 1,-12.75 ; 1,-9.25 2.1,-9.25 2.1,-8.75 1,-8.75 ; 1,-5.25 2.1,-5.25 2.1,-4.75 1,-4.75 ; 1,-1.25 2.1,-1.25 2.1,-0.75 1,-0.75 ; 1,2.75 2.1,2.75 2.1,3.25 1,3.25 ; 1,6.75 2.1,6.75 2.1,7.25 1,7.25 ; 1,10.75 2.1,10.75 2.1,11.25 1,11.25 ; 1,14.75 2.1,14.75 2.1,15.25 1,15.25 ; 1,18.75 2.1,18.75 2.1,19.25 1,19.25 ; 1,22.75 2.1,22.75 2.1,23.25 1,23.25 ; 1,26.75 2.1,26.75 2.1,27.25 1,27.25 ; 1,27.25 1,-28 -1,-28 -1,28 0.25,28 1,27.25
  text "'.Designator'" at 0.84,-4.047 h1
Top Courtyard:
  lines w0.254: -2.85,-28.5 2.85,-28.5 2.85,28.5 -2.85,28.5 -2.85,-28.5
Top Designator:
  text ".Designator" at -7.618,-0.508 h1.52

## PinHeader_1x29_P2.00mm_Horizontal [mm]
pads (29):
  rect 1.35x1.35 hole 0.8: 1(0,0)
  round 1.35 hole 0.8: 2(0,-2) 3(0,-4) 4(0,-6) 5(0,-8) 6(0,-10) 7(0,-12) 8(0,-14) 9(0,-16) 10(0,-18) 11(0,-20) 12(0,-22) 13(0,-24) 14(0,-26) 15(0,-28) 16(0,-30) 17(0,-32) 18(0,-34) 19(0,-36) 20(0,-38) 21(0,-40) 22(0,-42) 23(0,-44) 24(0,-46) 25(0,-48) 26(0,-50) 27(0,-52) 28(0,-54) 29(0,-56)
F.SilkS:
  drawing of 180 lines, arcs and shapes, not listed
Top Assembly:
  drawing of 179 lines, arcs and shapes, not listed
  text "'.Designator'" at 3.006,-31.642 h0.9
Top Courtyard:
  lines w0.254: -1.5,-57.5 7.7,-57.5 7.7,1.5 -1.5,1.5 -1.5,-57.5
Top Designator:
  text ".Designator" at -4.518,-28.508 h1.52

## PinHeader_1x29_P2.00mm_Vertical [mm]
pads (29):
  rect 1.35x1.35 hole 0.8: 1(0,0)
  round 1.35 hole 0.8: 2(0,-2) 3(0,-4) 4(0,-6) 5(0,-8) 6(0,-10) 7(0,-12) 8(0,-14) 9(0,-16) 10(0,-18) 11(0,-20) 12(0,-22) 13(0,-24) 14(0,-26) 15(0,-28) 16(0,-30) 17(0,-32) 18(0,-34) 19(0,-36) 20(0,-38) 21(0,-40) 22(0,-42) 23(0,-44) 24(0,-46) 25(0,-48) 26(0,-50) 27(0,-52) 28(0,-54) 29(0,-56)
F.SilkS:
  lines w0.254: -1.11,0 -1.11,1.11 0,1.11 ; -1.11,-57.11 1.11,-57.11 1.11,-1 -1.11,-1 -1.11,-57.11
Top Assembly:
  lines w0.254: -1,-57 1,-57 1,1 -0.5,1 -1,0.5 -1,-57
  text "'.Designator'" at 0.84,-32.047 h1
Top Courtyard:
  lines w0.254: -1.5,-57.5 1.5,-57.5 1.5,1.5 -1.5,1.5 -1.5,-57.5
Top Designator:
  text ".Designator" at -7.618,-28.508 h1.52